# Altium footprint library Capacitor.PcbLib: 3 footprints
Each footprint in its own frame and in the unit in brackets; x right, y up, seen from the top. Pads: shape width x height; smd on the part's side, far side on the other; paste and mask are expansions set on the pad; w line width, h text height; cw(c..) or ccw(c..) is an arc to the next point about the centre after c.
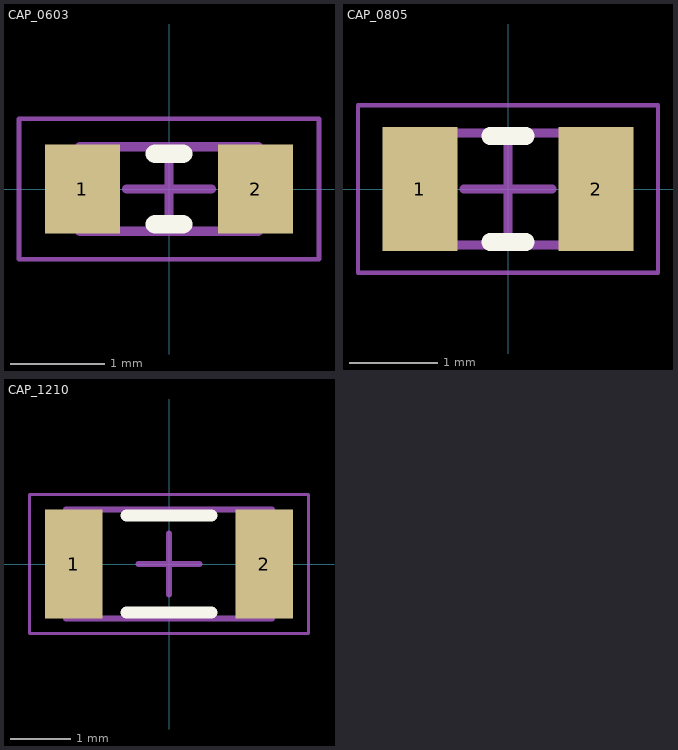
[diagram p0: the footprints below, top view; thin cyan lines are the x and y axes]

## CAP_0603 [mm] "Chip Capacitor, 2-Leads, Body 1.80x0.80mm, IPC Medium Density"
height 0.9
pads (2):
  rect 0.8x0.95 smd: 1(-0.925,0) 2(0.925,0)
Top Overlay:
  lines w0.2: -0.15,-0.375 0.15,-0.375 ; -0.15,0.375 0.15,0.375
Top Assembly:
  lines w0.1: -0.95,-0.45 0.95,-0.45 0.95,0.45 -0.95,0.45 -0.95,-0.45
Top Designator:
  text ".Designator" at -5.998,-0.4 h1.2
Top Courtyard (Mech15):
  lines w0.05: -1.6,-0.75 1.6,-0.75 1.6,0.75 -1.6,0.75 -1.6,-0.75
  lines w0.1: -0.45,0 0.45,0 ; 0,-0.45 0,0.45
3D body "CAPC1808X09N.step": height 0.9, standoff 0, extent -0.95,-0.45 0.95,0.45

## CAP_0805 [mm] "Chip Capacitor, 2-Leads, Body 2.03x1.27mm, IPC Medium Density"
height 0.64
pads (2):
  rect 0.85x1.4 smd: 1(-1,0) 2(1,0)
Top Overlay:
  lines w0.2: -0.2,-0.6 0.2,-0.6 ; -0.2,0.6 0.2,0.6
Top Assembly:
  lines w0.1: -1.015,-0.635 1.015,-0.635 1.015,0.635 -1.015,0.635 -1.015,-0.635
Top Designator:
  text ".Designator" at -5.998,-0.4 h1.2
Top Courtyard (Mech15):
  lines w0.05: -1.7,-0.95 1.7,-0.95 1.7,0.95 -1.7,0.95 -1.7,-0.95
  lines w0.1: -0.5,0 0.5,0 ; 0,-0.5 0,0.5
3D body "CAPC2013X06N.step": height 0.64, standoff 0, extent -1.015,-0.635 1.015,0.635

## CAP_1210 [mm] "Chip Capacitor, 2-Leads, Body 3.20x1.60mm, IPC Medium Density"
height 1.8
pads (2):
  rect 0.95x1.8 smd: 1(-1.575,0) 2(1.575,0)
Top Overlay:
  lines w0.2: -0.7,-0.8 0.7,-0.8 ; -0.7,0.8 0.7,0.8
Top Assembly:
  lines w0.1: -1.7,-0.9 -1.7,0.9 1.7,0.9 1.7,-0.9 -1.7,-0.9
Top Courtyard (Mech15):
  lines w0.05: -2.3,-1.15 -2.3,1.15 2.3,1.15 2.3,-1.15 -2.3,-1.15
  lines w0.1: -0.5,0 0.5,0 ; 0,-0.5 0,0.5
3D body "CAPC3216X18N.step": height 1.8, standoff 0, extent -1.7,-0.9 1.7,0.9